# EAGLE library part PICAXE-14M (library Mine)
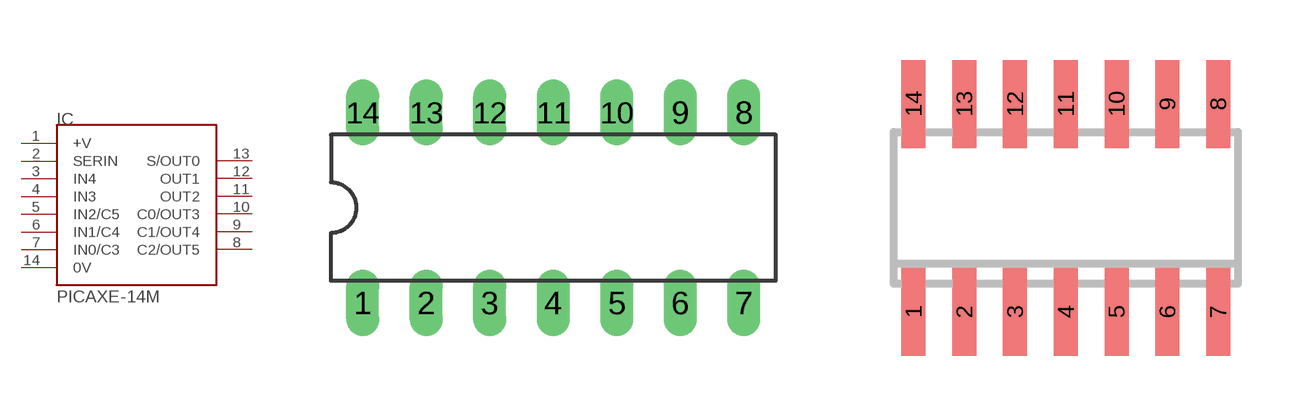
[diagram p4: symbol with the pads of DIL14; footprints DIL14, SO-14]

Designator prefix IC

## PICAXE-14M  [DIL14]
1  +V  pwr
2  SERIN  in
3  IN4  in
4  IN3  in
5  IN2/C5  in
6  IN1/C4  in
7  IN0/C3  in
8  C2/OUT5  out
9  C1/OUT4  out
10  C0/OUT3  out
11  OUT2  out
12  OUT1  out
13  S/OUT0  out
14  0V  pwr

## PICAXE-14MSO  [SO-14]
Pads as for DIL14

## Footprint DIL14 (pad centres in mm)
Dual In Line Package
drill 0.813 long: 1 -7.62,-3.81; 2 -5.08,-3.81; 3 -2.54,-3.81; 4 0,-3.81; 5 2.54,-3.81; 6 5.08,-3.81; 7 7.62,-3.81; 8 7.62,3.81; 9 5.08,3.81; 10 2.54,3.81; 11 0,3.81; 12 -2.54,3.81; 13 -5.08,3.81; 14 -7.62,3.81

## Footprint SO-14 (pad centres in mm)
Small Outline Narrow Plastic Gull Wing 150-mil body, package type SL
smd 0.6 x 2.2: 1 -3.81,-2.6; 2 -2.54,-2.6; 3 -1.27,-2.6; 4 0,-2.6; 5 1.27,-2.6; 6 2.54,-2.6; 7 3.81,-2.6; 8 3.81,2.6; 9 2.54,2.6; 10 1.27,2.6; 11 0,2.6; 12 -1.27,2.6; 13 -2.54,2.6; 14 -3.81,2.6